# Altium footprint library WE_TPC 3816.PcbLib: 1 footprints
Each footprint in its own frame and in the unit in brackets; x right, y up, seen from the top. Pads: shape width x height; smd on the part's side, far side on the other; paste and mask are expansions set on the pad; w line width, h text height; cw(c..) or ccw(c..) is an arc to the next point about the centre after c.
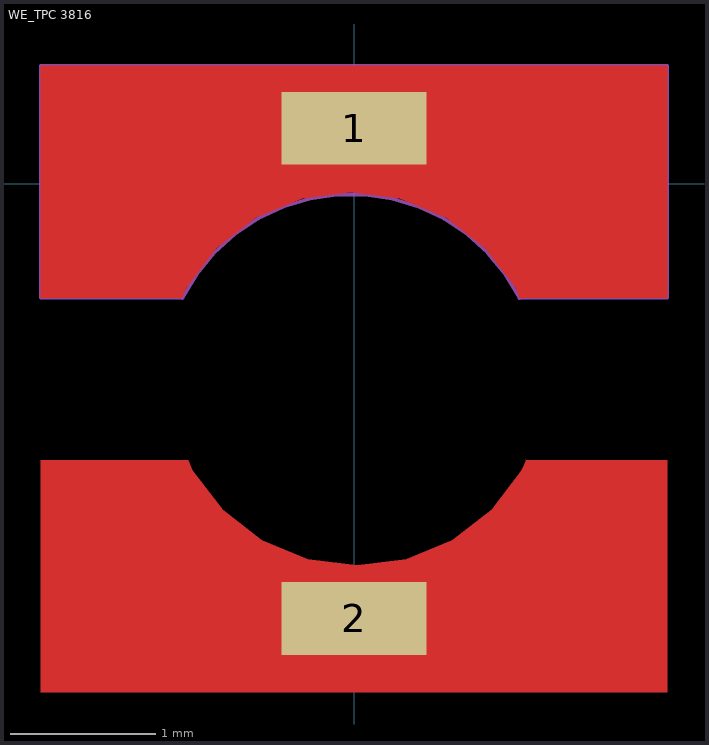
[diagram p0: the footprint, top view; thin cyan lines are the x and y axes]

## WE_TPC 3816 [mm] "Power Inductor"
height 0.025
pads (2):
  rect 1x0.5 smd: 1(0,0.381) 2(0,-2.997)
TopLayer:
  region: 2.159,-1.905 2.159,-3.505 -2.159,-3.505 -2.159,-1.905 -1.143,-1.905 -1.144,-1.906 -1.115,-1.976 -0.906,-2.248 -0.635,-2.456 -0.319,-2.587 0.021,-2.632 0.36,-2.587 0.676,-2.456 0.948,-2.248 1.156,-1.976 1.186,-1.906 1.183,-1.904 1.184,-1.905
  region: -2.159,-0.787 -2.159,0.813 2.159,0.813 2.159,-0.787 1.143,-0.787 1.144,-0.787 1.115,-0.716 0.906,-0.444 0.635,-0.236 0.319,-0.105 -0.021,-0.06 -0.36,-0.105 -0.676,-0.236 -0.948,-0.444 -1.156,-0.716 -1.186,-0.787 -1.183,-0.788 -1.184,-0.787
Mechanical1:
  lines w0.025: -1.184,-0.787 -2.159,-0.787 -2.159,0.813 2.159,0.813 2.159,-0.787 1.143,-0.787 ; -1.183,-0.788 cw(c-0.021,-1.372) 1.141,-0.788
3D body: height 1.65, standoff 0, extent -1.92,-3.272 1.88,0.528